# Altium footprint library Wampler.PcbLib: 50 footprints (part 2 of 4)
Each footprint in its own frame and in the unit in brackets; x right, y up, seen from the top. Pads: shape width x height; smd on the part's side, far side on the other; paste and mask are expansions set on the pad; w line width, h text height; cw(c..) or ccw(c..) is an arc to the next point about the centre after c.
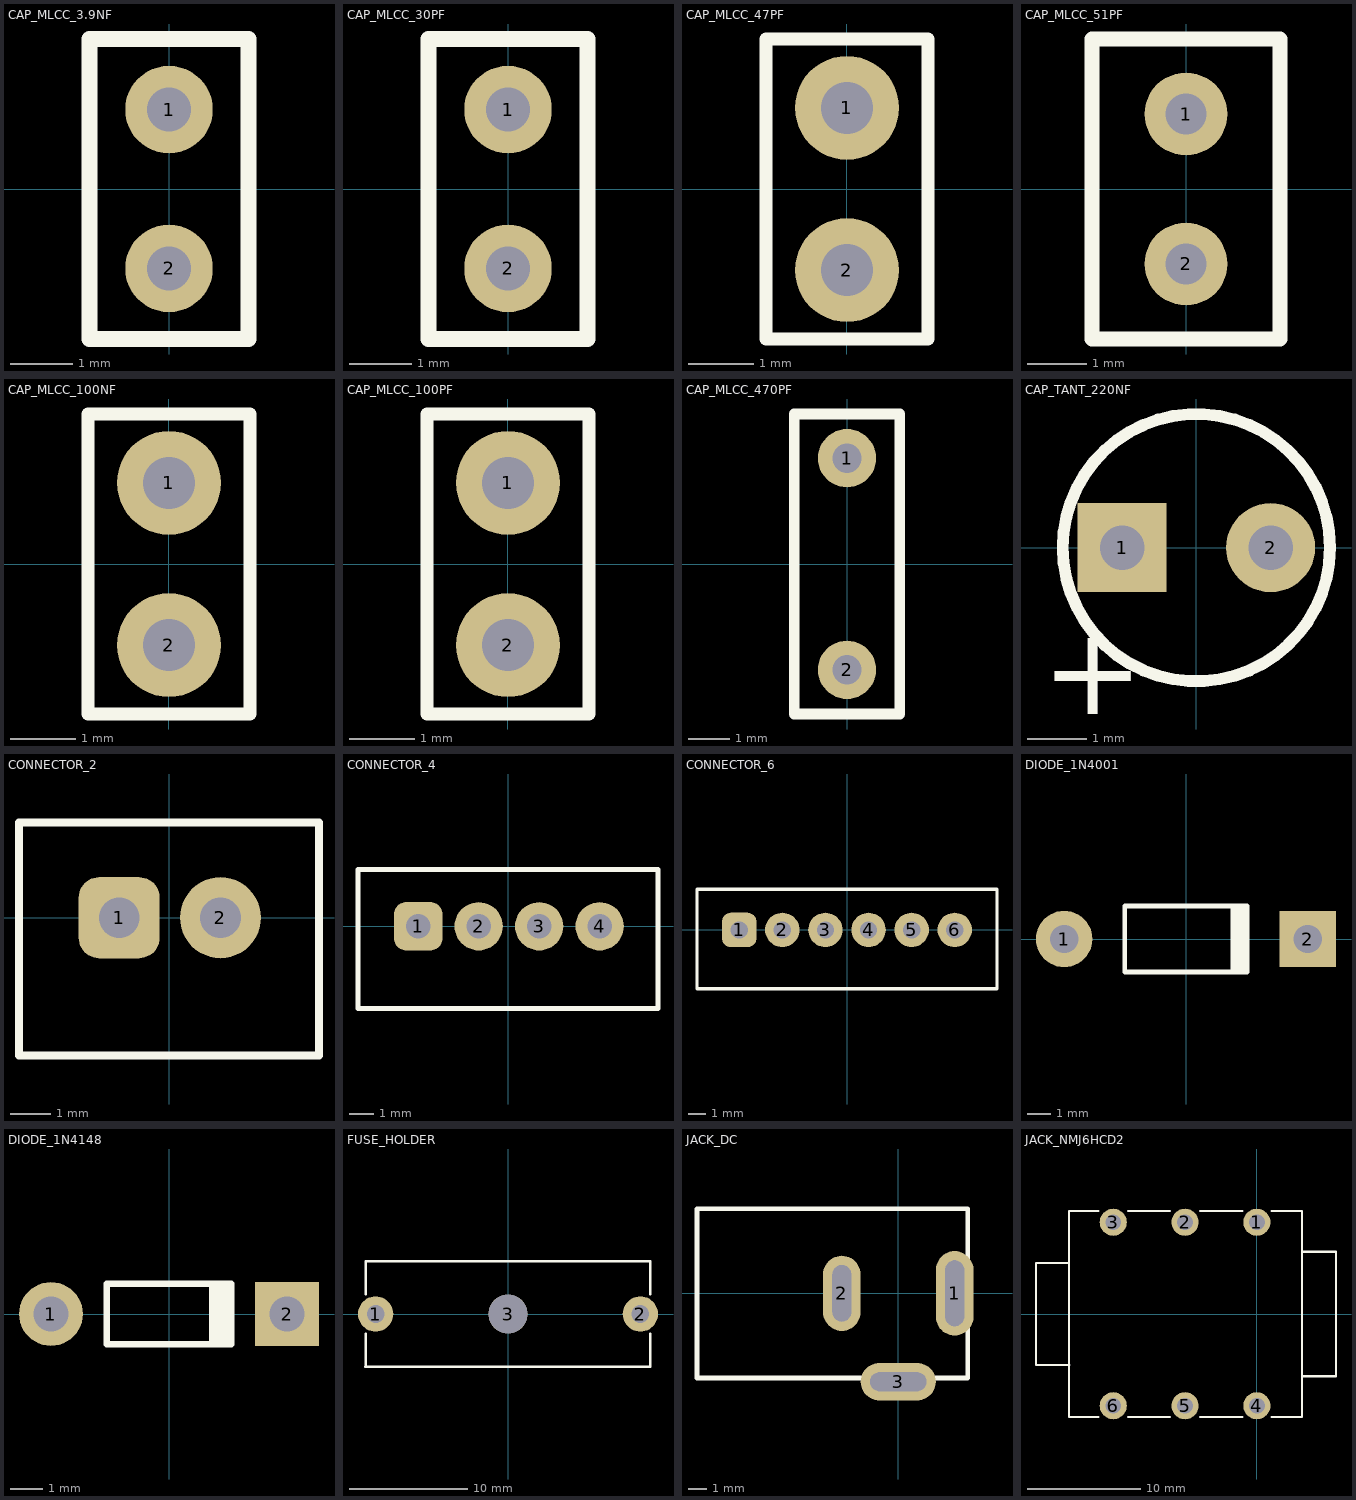
[diagram p1: the footprints below, top view; thin cyan lines are the x and y axes]

## CAP_MLCC_3.9NF [mm]
pads (2):
  round 1.4 hole 0.7: 1(0,1.27) 2(0,-1.27)
Top Overlay:
  lines w0.254: -1.27,-2.4 -1.27,2.4 1.27,2.4 1.27,-2.4 -1.27,-2.4
3D body "C315C121JAG5TA.step": height 4.76, standoff -6.9, extent -1.27,-1.91 1.275,1.9

## CAP_MLCC_30PF [mm]
pads (2):
  round 1.4 hole 0.7: 1(0,1.27) 2(0,-1.27)
Top Overlay:
  lines w0.254: -1.27,-2.4 -1.27,2.4 1.27,2.4 1.27,-2.4 -1.27,-2.4
3D body "C315C121JAG5TA.step": height 4.76, standoff -6.9, extent -1.27,-1.91 1.275,1.9

## CAP_MLCC_47PF [mm]
pads (2):
  round 1.6 hole 0.8: 1(0,1.25) 2(0,-1.25)
Top Overlay:
  lines w0.2: -1.25,-2.31 -1.25,2.31 1.25,2.31 1.25,-2.31 -1.25,-2.31
3D body "FG18C0G1H221JNT06.stp": height 5.64, standoff -5.04, extent -1.424,-2 1.445,2

## CAP_MLCC_51PF [mm]
pads (2):
  round 1.4 hole 0.7: 1(0,1.27) 2(0,-1.27)
Top Overlay:
  lines w0.254: -1.59,-2.54 1.59,-2.54 1.59,2.54 -1.59,2.54 -1.59,-2.54
3D body "C320C222J1G5TA.step": height 7.46, standoff -6.9, extent -1.59,-2.54 1.595,2.54

## CAP_MLCC_100NF [mm]
pads (2):
  round 1.6 hole 0.8: 1(0,1.25) 2(0,-1.25)
Top Overlay:
  lines w0.2: -1.25,-2.31 -1.25,2.31 1.25,2.31 1.25,-2.31 -1.25,-2.31
3D body "FG18C0G1H221JNT06.stp": height 5.64, standoff -5.04, extent -1.424,-2 1.445,2

## CAP_MLCC_100PF [mm]
pads (2):
  round 1.6 hole 0.8: 1(0,1.25) 2(0,-1.25)
Top Overlay:
  lines w0.2: -1.25,-2.31 -1.25,2.31 1.25,2.31 1.25,-2.31 -1.25,-2.31
3D body "FG18C0G1H221JNT06.stp": height 5.64, standoff -5.04, extent -1.424,-2 1.445,2

## CAP_MLCC_470PF [mm]
pads (2):
  round 1.4 hole 0.7: 1(0,2.54) 2(0,-2.54)
Top Overlay:
  lines w0.254: -1.27,-3.6 -1.27,3.6 1.27,3.6 1.27,-3.6 -1.27,-3.6
3D body "C317C560J2G5TA.step": height 5.11, standoff -6.97, extent -1.27,-2.793 1.275,2.793

## CAP_TANT_220NF [mm] "Capacitor, Tantalum, Radial; Body 4.5 x 7 mm (Dia.xH typ); Pin Spacing 2.5 mm (typ)"
height 8
pads (2):
  rect 1.5x1.5 hole 0.75: 1(-1.25,0)
  round 1.5 hole 0.75: 2(1.25,0)
Top Overlay:
  circle w0.2: c0,0 r2.25
  text "+" at -2.6,-2.8 h1.5
3D body "Cap Tan TH –Leads L3,5mm Radial Dipped T350.stp": height 7.6, standoff -3.15, extent -2.03,-2.03 2.03,2.027

## CONNECTOR_2 [mm]
pads (2):
  rrect50% 2x2 hole 1: 1(-1.23,0)
  round 2 hole 1: 2(1.27,0)
Top Overlay:
  lines w0.2: -3.7,-3.4 3.7,-3.4 3.7,2.35 -3.7,2.35 -3.7,-3.4
3D body "B2B-XH-A.STEP": height 7, standoff -3.4, extent -3.7,-3.4 3.7,2.35

## CONNECTOR_4 [mm]
pads (4):
  rrect50% 2x2 hole 1: 1(-3.71,0)
  round 2 hole 1: 2(-1.21,0) 3(1.29,0) 4(3.79,0)
Top Overlay:
  lines w0.2: -6.2,2.3 -6.2,-3.4 6.2,-3.4 6.2,2.35 -6.2,2.35
3D body "B4B-XH-A.STEP": height 7, standoff -3.4, extent -6.2,-3.4 6.2,2.35

## CONNECTOR_6 [mm]
pads (6):
  rrect50% 2x2 hole 1: 1(-6.25,0)
  round 2 hole 1: 2(-3.75,0) 3(-1.25,0) 4(1.25,0) 5(3.75,0) 6(6.25,0)
Top Overlay:
  lines w0.2: -8.7,2.3 -8.7,-3.4 8.7,-3.4 8.7,2.35 -8.7,2.35
3D body "B6B-XH-A.STEP": height 7, standoff -3.4, extent -8.7,-3.4 8.7,2.35

## DIODE_1N4001 [mm] "Diode, Axial; Body 5.2 x 2.7 mm (LxDia. max), Lead Dia. 0.86 mm (max)"
height 2.8
pads (2):
  round 2.4 hole 1.2: 1(-5.18,0)
  rect 2.4x2.4 hole 1.2: 2(5.18,0)
Top Overlay:
  rectangle: 1.9,-1.4 2.7,1.4
  lines w0.2: 2.6,-1.4 -2.6,-1.4 -2.6,1.4 2.6,1.4
3D body "DO-41.STEP": height 2.93, standoff -2.4, extent -5.487,-1.38 5.537,1.34

## DIODE_1N4148 [mm] "Diode, Axial; Body 3.8 x 1.9 mm (LxDia. max), Lead Dia. 0.53 mm (max)"
height 1.9
pads (2):
  round 2 hole 1.1: 1(-3.7,0)
  rect 2x2 hole 1.1: 2(3.7,0)
Top Overlay:
  rectangle: 1.25,-0.95 2.05,0.95
  lines w0.2: 1.95,-0.95 -1.95,-0.95 -1.95,0.95 1.95,0.95
3D body "DO-35.STEP": height 2.2, standoff -1.8, extent -4.07,-1.01 4.07,1.01

## FUSE_HOLDER [mm]
pads (3):
  round 3 hole 1.5: 1(-11.25,0) 2(11.25,0)
  round 3.3 hole 3.3: 3(0,0)
Top Overlay:
  lines w0.2: -12.125,-4.495 -12.105,-4.495 ; -12.105,-1.675 -12.105,-4.495 ; -12.105,1.675 -12.105,4.495 ; 12.105,-1.675 12.105,-4.495 -12.105,-4.495 ; 12.105,1.675 12.105,4.495 -12.105,4.495 ; -12.105,4.495 -12.1,4.495 -12.105,4.495
3D body "keystone-PN4628.STEP": height 12, standoff -3.95, extent -12.172,-4.497 12.035,4.495

## JACK_DC [mm]
pads (3):
  oval 2x4.5 hole 1 slot 3.5 at 90 deg: 1(3,0)
  oval 2x4 hole 1 slot 3 at 90 deg: 2(-3,0)
  oval 4x2 hole 1 slot 3 at 0 deg: 3(0,-4.7)
Top Overlay:
  lines w0.254: -10.7,-4.5 -10.7,4.5 3.7,4.5 3.7,-4.5 -10.7,-4.5
3D body "CUI_DEVICES_PJ-002A.step": height 11, standoff -3.49, extent -10.7,-4.9 3.7,4.5

## JACK_NMJ6HCD2 [mm]
pads (6):
  round 2.4 hole 1.4: 1(0,8.115) 2(-6.35,8.115) 3(-12.7,8.115) 4(0,-8.115) 5(-6.35,-8.115) 6(-12.7,-8.115)
Top Overlay:
  lines w0.2: -16.7,4.5 -19.53,4.5 -19.53,-4.5 -16.6,-4.5 ; -14,-9.1 -16.61,-9.1 -16.61,9.1 -14,9.1 ; -11.4,-9.1 -7.7,-9.1 ; -11.4,9.1 -7.7,9.1 ; -5,-9.1 -1.3,-9.1 ; -5,9.1 -1.3,9.1 ; 1.3,-9.1 4,-9.1 4,9.1 1.3,9.1 ; 4,-5.5 7,-5.5 7,5.5 4,5.5
3D body "STR.STEP": height 16.04, standoff -3.76, extent -19.53,-9.1 12.048,9.1